# EAGLE library part EMC2301 (library alvie)
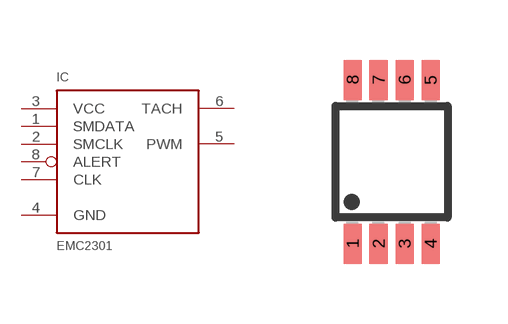
[diagram p10: symbol with the pads of MSOP8; footprint MSOP8]

Designator prefix IC

## EMC2301  [MSOP8]
1  SMDATA
2  SMCLK
3  VCC  pwr
4  GND  pwr
5  PWM  pas
6  TACH  pas
7  CLK
8  ALERT  out

## Footprint MSOP8 (pad centres in mm)
smd 0.45 x 1: 1 -0.975,-2.05; 2 -0.325,-2.05; 3 0.325,-2.05; 4 0.975,-2.05; 5 0.975,2.05; 6 0.325,2.05; 7 -0.325,2.05; 8 -0.975,2.05